# Altium footprint library LAB03.PcbLib: 3 footprints
Each footprint in its own frame and in the unit in brackets; x right, y up, seen from the top. Pads: shape width x height; smd on the part's side, far side on the other; paste and mask are expansions set on the pad; w line width, h text height; cw(c..) or ccw(c..) is an arc to the next point about the centre after c.
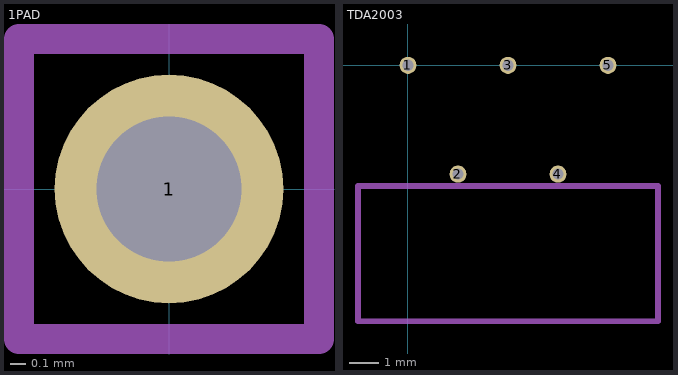
[diagram p0: the footprints below, top view; thin cyan lines are the x and y axes]

## 1PAD [mil]
pads (1):
  round 60 hole 38: 1(0,0)
Mechanical 1:
  lines w7.87: -39.37,-39.37 -39.37,39.37 39.37,39.37 39.37,-39.37 -39.37,-39.37

## PCBComponent_1 [mm]

## TDA2003 [mm]
pads (5):
  round 0.58 hole 0.38: 1(0,0) 2(1.7,-3.7) 3(3.4,0) 4(5.1,-3.7) 5(6.8,0)
Mechanical 1:
  lines w0.2: -1.7,-8.7 8.5,-8.7 8.5,-4.1 -1.7,-4.1 -1.7,-8.7